# Altium schematic symbol library Fiducial.Schlib: 1 symbol
Pins are listed as number, name and electrical type; pins without a type are passive.

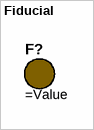
[diagram p0: symbol Fiducial]

## Fiducial
designator F?  (no BOM)
PCB Fiducial